# EAGLE library part MCP4821-E/SN (library MCP4821-E_SN)
Check availability <https://pricing.snapeda.com/parts/MCP4821-E/SN/Microchip/view-part?ref=eda>
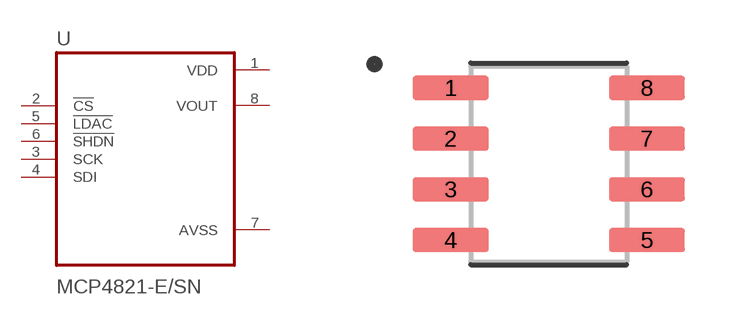
[diagram p0: symbol with the pads of SOIC127P600X175-8N; footprint SOIC127P600X175-8N]

Designator prefix -

## MCP4821-E/SN (Availability: In Stock; Description: 12 Bit Digital to Analog Converter 1 8-SOIC; MF: Microchip; MP: MCP4821-E/SN; Package: SOIC-8 Microchip; Price: None; Purchase-URL: https://pricing.snapeda.com/search?q=MCP4821-E/SN&ref=eda)  [SOIC127P600X175-8N]
1  VDD  pwr
2  !CS  in
3  SCK  in
4  SDI  in
5  !LDAC  in
6  !SHDN  in
7  AVSS  pwr
8  VOUT  out

## Footprint SOIC127P600X175-8N (pad centres in mm)
smd 1.9 x 0.6: 1 -2.455,1.905; 2 -2.455,0.635; 3 -2.455,-0.635; 4 -2.455,-1.905; 5 2.455,-1.905; 6 2.455,-0.635; 7 2.455,0.635; 8 2.455,1.905